# EAGLE library part AMP-1241150-6 (library jt-con-tyco)
AMPMODU II 2.54mm SMT unshrouded 6-position
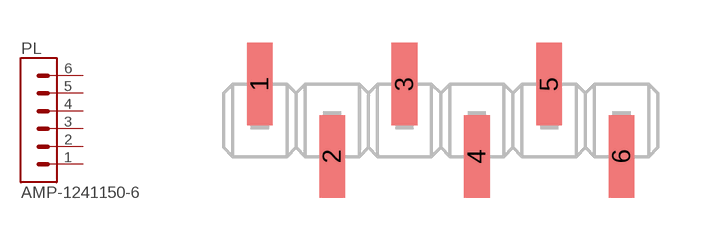
[diagram p0: symbol with the pads of AMP-1241150-6; footprint AMP-1241150-6]

Designator prefix PL

## AMP-1241150-6  [AMP-1241150-6]
1  1
2  2
3  3
4  4
5  5
6  6

## Footprint AMP-1241150-6 (pad centres in mm)
AMPMODU II 2.54mm SMT unshrouded 6-position
smd 0.9 x 2.9: 1 -6.35,1.27; 2 -3.81,-1.27; 3 -1.27,1.27; 4 1.27,-1.27; 5 3.81,1.27; 6 6.35,-1.27